# EAGLE library part TPA6138A2 (library SparkFun-AnalogIC)
Headphone driver amp Differential to single-ended audio amplifier.
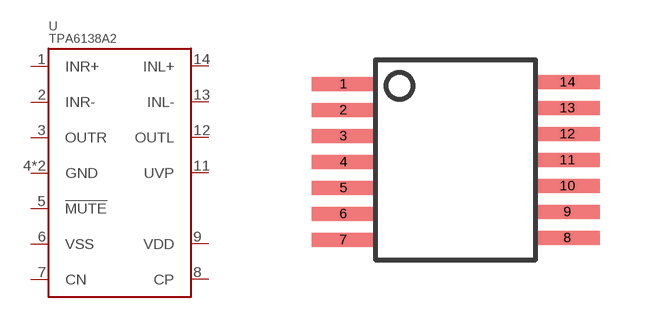
[diagram p35: symbol with the pads of TSSOP-14; footprint TSSOP-14]

Designator prefix -

## TPA6138A2  [TSSOP-14]
1  INR+
2  INR-
3  OUTR
4  GND
5  !MUTE
6  VSS
7  CN
8  CP
9  VDD
10  GND
11  UVP
12  OUTL
13  INL-
14  INL+

## Footprint TSSOP-14 (pad centres in mm)
smd 1.6 x 0.35: 1 -2.8,1.9; 2 -2.8,1.25; 3 -2.8,0.6; 4 -2.8,-0.05; 5 -2.8,-0.7; 6 -2.8,-1.35; 7 -2.8,-2; 8 2.8,-1.95; 9 2.8,-1.3; 10 2.8,-0.65; 11 2.8,0; 12 2.8,0.65; 13 2.8,1.3; 14 2.8,1.95